# Altium schematic symbol library Resistor4_7kOhm.SchLib: 1 symbol
Pins are listed as number, name and electrical type; pins without a type are passive.

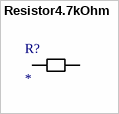
[diagram p0: symbol Resistor4.7kOhm]

## Resistor4.7kOhm
designator R?
footprint R1210X06M (Chip Resistor, 2-Leads, Body 3.20x2.50mm, IPC Low Density)
pins: 1 (power), 2 (power)